# Altium schematic symbol library SYM-Mechanical.SchLib: 19 symbols
Pins are listed as number, name and electrical type; pins without a type are passive.

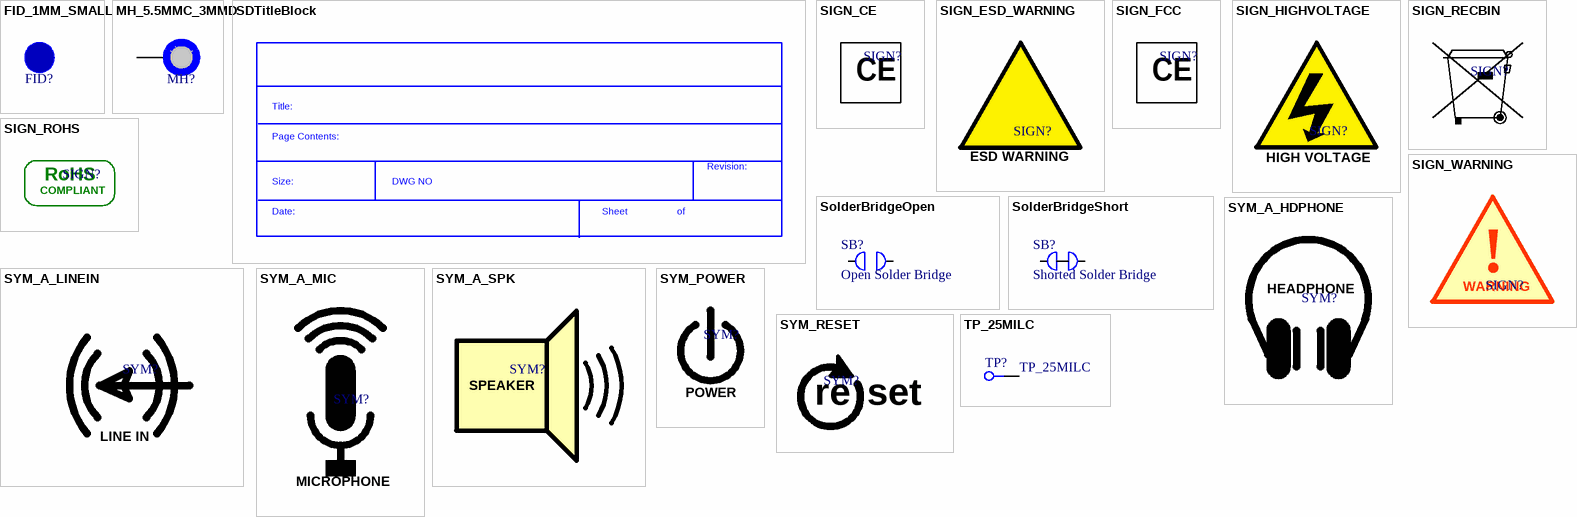
[diagram p0: symbols FID_1MM_SMALL to TP_25MILC]

## FID_1MM_SMALL
designator FID?  (value not drawn)  (no BOM)
Fiducial 40mil Diameter, 52mil Mask
footprint FID_40X52D

## MH_5.5MMC_3MMD
designator MH?, comment MH_5MMC_3MMD  (value not drawn)  (no BOM)
Mounting Hole 5mm Diameter, 3mm Drill
footprint MH_5.5MMD_3MMD
pins: 1

## SDTitleBlock
designator *?  (value not drawn)  (graphical)
text: Title:; Page Contents:; Revision:; Size:; DWG NO; Date:; Sheet; of

## SIGN_CE
designator SIGN?, comment CE_COMPLIANT  (value not drawn)  (graphical)
CE Compliant; ASSEMBLY: DNP; VALUE: CE_COMPLIANT
footprint SIGN_CE (CE Compliant, 8x7mm)
text: CE

## SIGN_ESD_WARNING
designator SIGN?, comment ESD_WARNING  (value not drawn)  (graphical)
Electrostatic Discharge Warning; ASSEMBLY: DNP; VALUE: ESD_WARNING
footprint ESD_WARNING0 (Electrostatic Discharge Warning, 8x7mm)
footprint ESD_WARNING1 (Electrostatic Discharge Warning, 10.3X11.6mm)
footprint ESD_WARNING2 (Electrostatic Discharge Warning, 10.3X11.6mm)
footprint ESD_WARNING3 (Electrostatic Discharge Warning, 9.6X11.1mm)
text: ESD WARNING

## SIGN_FCC
designator SIGN?, comment FCC_COMPLIANT  (value not drawn)  (graphical)
FCC Compliant; ASSEMBLY: DNP; VALUE: FCC_COMPLIANT
footprint SIGN_FCC (FCC Compliant, 7x7mm)
text: CE

## SIGN_HIGHVOLTAGE
designator SIGN?, comment HIGH_VOLTAGE  (value not drawn)  (graphical)
SIGN, HIGH VOLTAGE HAZARD; ASSEMBLY: DNP; VALUE: HIGH_VOLTAGE
footprint SIGN_HIGHVOLTAGE (SIGN, HIGH VOLTAGE HAZARD, 12X12.5mm)
text: HIGH VOLTAGE

## SIGN_RECBIN
designator SIGN?, comment Recycle-bin  (value not drawn)  (graphical)
SIGN, Recycle-bin; ASSEMBLY: DNP; VALUE: Recycle-bin
footprint SIGN_RECBIN1 (SIGN, Recycle-bin, 6x5mm)
footprint SIGN_RECBIN2 (SIGN, Recycle-bin, 8x7mm)
footprint SIGN_RECBIN3 (SIGN, Recycle-bin, 10x8mm)
footprint SIGN_RECBIN4 (SIGN, Recycle-bin, 14X14mm)

## SIGN_ROHS
designator SIGN?, comment ROHS  (value not drawn)  (graphical)
SIGN, ROHS Compliant; ASSEMBLY: DNP; VALUE: ROHS
footprint SIGN_ROHS1 (SIGN, ROHS Compliant, 5.5x4.8mm)
footprint SIGN_ROHS2 (SIGN, ROHS Compliant, 14X12mm)
footprint SIGN_ROHS3 (SIGN, ROHS Compliant, 22.5X12mm)
footprint SIGN_ROHS4 (SIGN, ROHS Compliant, 12X12mm)
footprint SIGN_ROHS5 (SIGN, ROHS Compliant, 12X12mm)
text: RoHS; COMPLIANT

## SIGN_WARNING
designator SIGN?, comment WARNING  (value not drawn)  (graphical)
SIGN, WARNING, 12X12mm; ASSEMBLY: DNP; VALUE: WARNING
footprint SIGN_WARNING (SIGN, WARNING, 12X12mm)
text: !

## SolderBridgeOpen
designator SB?, comment Open Solder Bridge  (no BOM)
footprint SolderBridgeOpen
pins: 1, 2

## SolderBridgeShort
designator SB?, comment Shorted Solder Bridge  (no BOM)
footprint SolderBridgeShort
pins: 1, 2

## SYM_A_HDPHONE
designator SYM?, comment HeadPhone  (value not drawn)  (graphical)
Symbol, Audio, HeadPhone; ASSEMBLY: DNP; VALUE: HeadPhone
footprint SYM_A_HDPHONE (Symbol, Audio, HeadPhone)
text: HEADPHONE

## SYM_A_LINEIN
designator SYM?, comment LineIN  (value not drawn)  (graphical)
Symbol, Audio, LineIN; ASSEMBLY: DNP; VALUE: LineIN
footprint SYM_A_HDPHONE (Symbol, Audio, HeadPhone)
text: LINE IN

## SYM_A_MIC
designator SYM?, comment Microphone  (value not drawn)  (graphical)
Symbol, Audio, Microphone; ASSEMBLY: DNP; VALUE: Microphone
footprint SYM_A_MIC (Symbol, Audio, Microphone, 6X9.5mm)
text: MICROPHONE

## SYM_A_SPK
designator SYM?, comment Speaker  (value not drawn)  (graphical)
Symbol, Audio, Speaker; ASSEMBLY: DNP; VALUE: Speaker
footprint SYM_A_SPK (Symbol, Audio, Speaker)
text: SPEAKER

## SYM_POWER
designator SYM?, comment POWER  (value not drawn)  (graphical)
Symbol, POWER; ASSEMBLY: DNP; VALUE: POWER
footprint SYM_POWER (Symbol, POWER, 4.6X6.3mm)

## SYM_RESET
designator SYM?, comment RESET  (value not drawn)  (graphical)
Symbol, RESET; ASSEMBLY: DNP; VALUE: RESET
footprint SYM_RESET (Symbol, RESET, 8.8x5mm)
text: re; set

## TP_25MILC
designator TP?  (no BOM)
Test Point 25mil
footprint TP_25C
pins: 1